# EAGLE library part Q_TC74HC4051A (library MRDT-2014-All)
8:1 Multiplexer Analog 5V
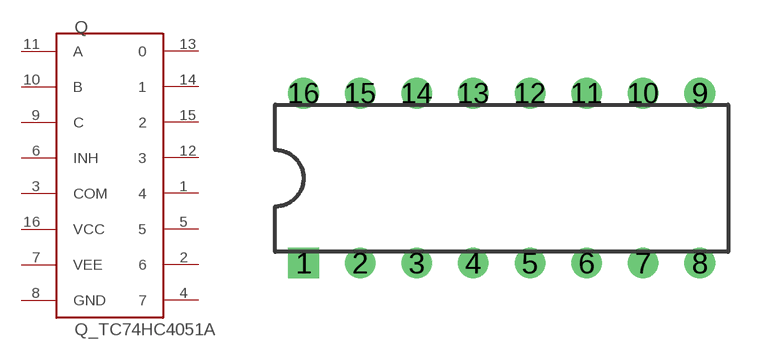
[diagram p12: symbol with the pads of DIP16; footprint DIP16]

Designator prefix Q

## Q_TC74HC4051A  [DIP16]
1  4
2  6
3  COM
4  7
5  5
6  INH
7  VEE
8  GND
9  C
10  B
11  A
12  3
13  0
14  1
15  2
16  VCC

## Footprint DIP16 (pad centres in mm)
drill 0.864 square: 1 -11.43,-3.81
drill 0.864: 2 -8.89,-3.81; 3 -6.35,-3.81; 4 -3.81,-3.81; 5 -1.27,-3.81; 6 1.27,-3.81; 7 3.81,-3.81; 8 6.35,-3.81; 9 6.35,3.81; 10 3.81,3.81; 11 1.27,3.81; 12 -1.27,3.81; 13 -3.81,3.81; 14 -6.35,3.81; 15 -8.89,3.81; 16 -11.43,3.81